# Altium schematic symbol library TXS0104EPWRG4.SchLib: 1 symbol
Pins are listed as number, name and electrical type; pins without a type are passive.

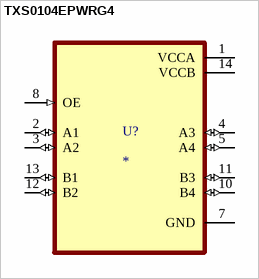
[diagram p0: symbol TXS0104EPWRG4]

## TXS0104EPWRG4
designator U?
MP: TXS0104EPWRG4; MF: {'manufacturer': u'Texas Instruments'}; Value: *; Availability: Unavailable; Package: None; Price: None
footprint SOP65P640X120-14N
pins: 1 VCCA (power), 2 A1 (io), 3 A2 (io), 4 A3 (io), 5 A4 (io), 7 GND (power), 8 OE (in), 10 B4 (io), 11 B3 (io), 12 B2 (io), 13 B1 (io), 14 VCCB (power)